# EAGLE library part USB_MICRO_AB (library fmc)
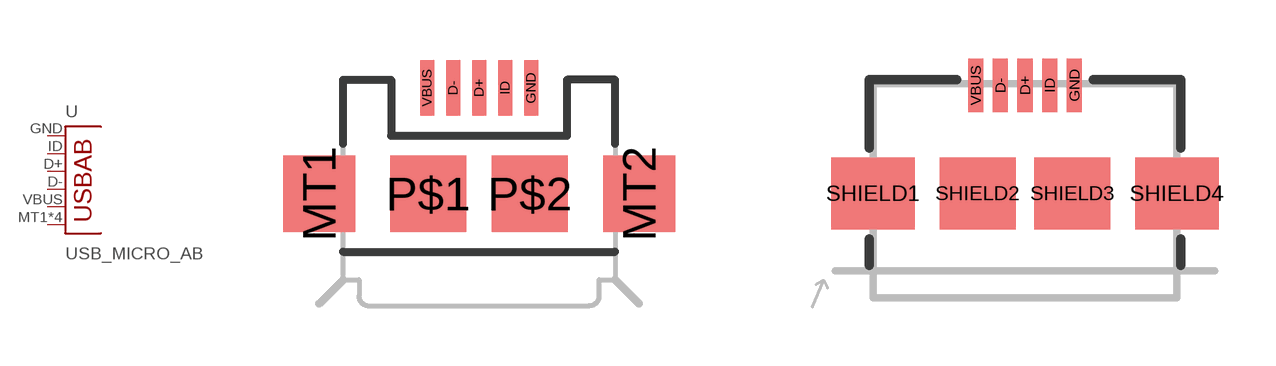
[diagram p2: symbol with the pads of USB_MICRO_AB; footprints USB_MICRO_AB, USB_MICRO_AB_V3]

Designator prefix -

## USB_MICRO_ABAB  [USB_MICRO_AB]
D+  D+
D-  D-
GND  GND
ID  USBID
MT1  SHIELD
MT2  SHIELD
P$1  SHIELD
P$2  SHIELD
VBUS  VBUS

## USB_MICRO_ABAB_  [USB_MICRO_AB_V3]
D+  D+
D-  D-
GND  GND
ID  USBID
SHIELD1  SHIELD
SHIELD2  SHIELD
SHIELD3  SHIELD
SHIELD4  SHIELD
VBUS  VBUS

## USB_MICRO_AB10118193-0001LF  [USB_MICRO_B]
D+  D+
D-  D-
GND  GND
ID  USBID
S1  SHIELD
S2  SHIELD
S3  SHIELD
S4  SHIELD
S5  SHIELD
S6  SHIELD
VBUS  VBUS

## USB_MICRO_AB10118192-0001LF  [USB_MICRO_B_SMD]
Pads as for USB_MICRO_B

## Footprint USB_MICRO_AB (pad centres in mm)
smd 0.35 x 1.4: D+ 0,2.65; D- -0.65,2.65; GND 1.3,2.65; ID 0.65,2.65; VBUS -1.3,2.65
smd 1.8 x 1.9: MT1 -4,0; MT2 4,0
smd 1.9 x 1.9: P$1 -1.27,0; P$2 1.27,0

## Footprint USB_MICRO_AB_V3 (pad centres in mm)
smd 0.4 x 1.4: D+ 0,2.85; D- -0.65,2.85; GND 1.3,2.85; ID 0.65,2.85; VBUS -1.3,2.85
smd 2.2 x 1.9: SHIELD1 -4,0; SHIELD4 4,0
smd 2 x 1.9: SHIELD2 -1.25,0; SHIELD3 1.25,0

## Footprint USB_MICRO_B (pad centres in mm)
smd 0.4 x 1.7: D+ 0,2.9; D- -0.65,2.9; GND 1.3,2.9; ID 0.65,2.9; VBUS -1.3,2.9
drill 1.1: S1 -3.5,0; S4 3.5,0
smd 1.9 x 1.9: S2 -1.25,0; S3 1.25,0
smd 1.4 x 1.4: S5 -3.3,2.425; S6 3.3,2.425

## Footprint USB_MICRO_B_SMD (pad centres in mm)
smd 0.4 x 1.7: D+ 0,2.675; D- -0.65,2.675; GND 1.3,2.675; ID 0.65,2.675; VBUS -1.3,2.675
smd 1.9 x 1.9: S1 -3.8,0; S2 -1.25,0; S3 1.25,0; S4 3.8,0
smd 2.1 x 1.6: S5 -3.1,2.425; S6 3.1,2.425